# EAGLE library part P-12- (library con-headers-jp)
HEADER PLUG PINS
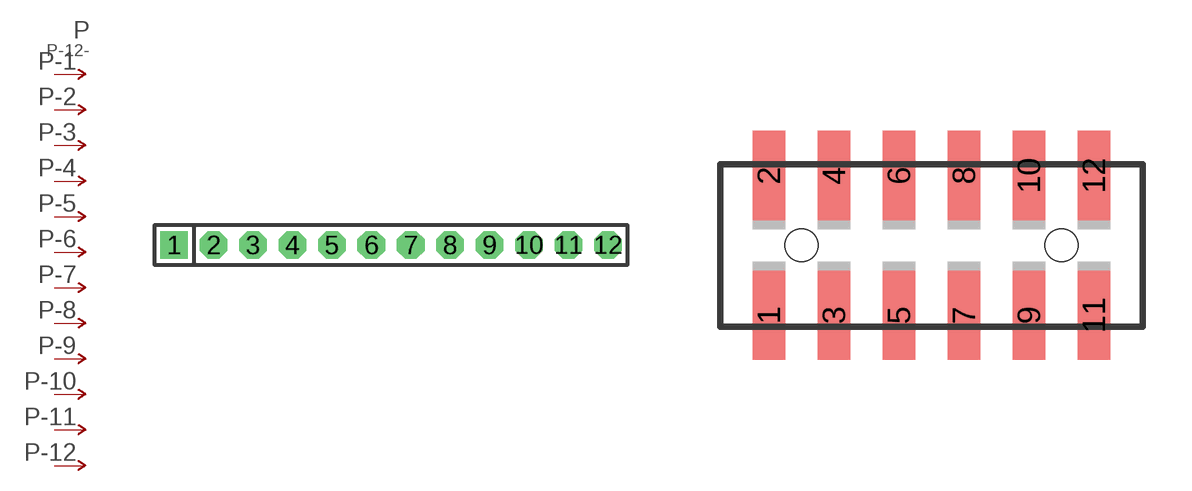
[diagram p13: symbol with the pads of SIP-100-12-40; footprints SIP-100-12-40, 87759-12]

Designator prefix P; gates -2=P-N -3=P-N -4=P-N -5=P-N -6=P-N -7=P-N -8=P-N -9=P-N -10=P-N -11=P-N -12=P-N -1=P-NV

## P-12-SIP-100-40  [SIP-100-12-40]
1  -1:P  pas
2  -2:P  pas
3  -3:P  pas
4  -4:P  pas
5  -5:P  pas
6  -6:P  pas
7  -7:P  pas
8  -8:P  pas
9  -9:P  pas
10  -10:P  pas
11  -11:P  pas
12  -12:P  pas

## P-12-87759  [87759-12]
Pads as for SIP-100-12-40

## P-12-100-2X06  [DIL-100-2X06]
Pads as for SIP-100-12-40

## P-12-100-2X06_M  [DIL-100-2X06_M]
Pads as for SIP-100-12-40

## P-12-2MM-2X06  [DIL-2MM-2X06]
Pads as for SIP-100-12-40

## P-12-2MM-2X06_M  [DIL-2MM-2X06_M]
Pads as for SIP-100-12-40

## P-12-SIP-100-32  [SIP-100-12-32]
Pads as for SIP-100-12-40

## P-12-SIP-100-40Y  [SIP-100-12-40Y]
Pads as for SIP-100-12-40

## P-12-SIP-100-32Y  [SIP-100-12-32Y]
Pads as for SIP-100-12-40

## P-12-87759_M  [87759-12_M]
Pads as for SIP-100-12-40

## P-12-LCW-112-XX-X-S  [LCW-112-XX-X-S]
Pads as for SIP-100-12-40

## P-12-LCW-112-XX-X-S-RE  [LCW-112-XX-X-S-RE]
Pads as for SIP-100-12-40

## Footprint SIP-100-12-40 (pad centres in mm)
SIP Header - 0.1", 40 mil drill
drill 1.016 pad 1.778 square: 1 -13.97,0
drill 1.016 pad 1.778 octagon: 2 -11.43,0; 3 -8.89,0; 4 -6.35,0; 5 -3.81,0; 6 -1.27,0; 7 1.27,0; 8 3.81,0; 9 6.35,0; 10 8.89,0; 11 11.43,0; 12 13.97,0

## Footprint 87759-12 (pad centres in mm)
Molex PCB Pin Headers 2.00mm (.079") Pitch Milli-Grid Header, Vertical SMD
smd 1 x 2.75: 1 -5,-2.15; 2 -5,2.15; 3 -3,-2.15; 4 -3,2.15; 5 -1,-2.15; 6 -1,2.15; 7 1,-2.15; 8 1,2.15; 9 3,-2.15; 10 3,2.15; 11 5,-2.15; 12 5,2.15
hole 1 at -4,0
hole 1 at 4,0

## Footprint DIL-100-2X06 (pad centres in mm)
PIN HEADER - 0.1"
drill 1.016 square: 1 -6.35,-1.27
drill 1.016 octagon: 2 -6.35,1.27; 3 -3.81,-1.27; 4 -3.81,1.27; 5 -1.27,-1.27; 6 -1.27,1.27; 7 1.27,-1.27; 8 1.27,1.27; 9 3.81,-1.27; 10 3.81,1.27; 11 6.35,-1.27; 12 6.35,1.27

## Footprint DIL-100-2X06_M (pad centres in mm)
PIN HEADER - MIRRORED 0.1"
drill 1.016 square: 1 -6.35,1.27
drill 1.016 octagon: 2 -6.35,-1.27; 3 -3.81,1.27; 4 -3.81,-1.27; 5 -1.27,1.27; 6 -1.27,-1.27; 7 1.27,1.27; 8 1.27,-1.27; 9 3.81,1.27; 10 3.81,-1.27; 11 6.35,1.27; 12 6.35,-1.27

## Footprint DIL-2MM-2X06 (pad centres in mm)
PIN HEADER - 2MM"
drill 0.711 pad 1.321 square: 1 -5,-1
drill 0.711 pad 1.321: 2 -5,1; 3 -3,-1; 4 -3,1; 5 -1,-1; 6 -1,1; 7 1,-1; 8 1,1; 9 3,-1; 10 3,1; 11 5,-1; 12 5,1

## Footprint DIL-2MM-2X06_M (pad centres in mm)
PIN HEADER - MIRRORED 2MM
drill 0.711 pad 1.321 square: 1 -5,1
drill 0.711 pad 1.321: 2 -5,-1; 3 -3,1; 4 -3,-1; 5 -1,1; 6 -1,-1; 7 1,1; 8 1,-1; 9 3,1; 10 3,-1; 11 5,1; 12 5,-1

## Footprint SIP-100-12-32 (pad centres in mm)
SIP Header - 0.1", 32 mil drill
drill 0.813 pad 1.778 square: 1 -13.97,0
drill 0.813 pad 1.778 octagon: 2 -11.43,0; 3 -8.89,0; 4 -6.35,0; 5 -3.81,0; 6 -1.27,0; 7 1.27,0; 8 3.81,0; 9 6.35,0; 10 8.89,0; 11 11.43,0; 12 13.97,0

## Footprint SIP-100-12-40Y (pad centres in mm)
SIP Header - 0.1", 40 mil drill
drill 1.016 long: 1 -13.97,0; 2 -11.43,0; 3 -8.89,0; 4 -6.35,0; 5 -3.81,0; 6 -1.27,0; 7 1.27,0; 8 3.81,0; 9 6.35,0; 10 8.89,0; 11 11.43,0; 12 13.97,0

## Footprint SIP-100-12-32Y (pad centres in mm)
SIP Header - 0.1", 32 mil drill
drill 0.813 long: 1 -13.97,0; 2 -11.43,0; 3 -8.89,0; 4 -6.35,0; 5 -3.81,0; 6 -1.27,0; 7 1.27,0; 8 3.81,0; 9 6.35,0; 10 8.89,0; 11 11.43,0; 12 13.97,0

## Footprint 87759-12_M (pad centres in mm)
Molex PCB Pin Headers - MIRRORED PADS 2.00mm (.079") Pitch Milli-Grid Header, Vertical SMD
smd 1 x 2.75: 1 -5,2.15; 2 -5,-2.15; 3 -3,2.15; 4 -3,-2.15; 5 -1,2.15; 6 -1,-2.15; 7 1,2.15; 8 1,-2.15; 9 3,2.15; 10 3,-2.15; 11 5,2.15; 12 5,-2.15
hole 1 at -4,0
hole 1 at 4,0

## Footprint LCW-112-XX-X-S (pad centres in mm)
Samtec LCW Series friction lock strips, 0.025" square pins
drill 0.813 long: 1 13.97,0; 2 11.43,0; 3 8.89,0; 4 6.35,0; 5 3.81,0; 6 1.27,0; 7 -1.27,0; 8 -3.81,0; 9 -6.35,0; 10 -8.89,0; 11 -11.43,0; 12 -13.97,0

## Footprint LCW-112-XX-X-S-RE (pad centres in mm)
Samtec LCW Series right angle, friction lock strips, 0.025" square pins
drill 0.813 long: 1 13.97,0; 2 11.43,0; 3 8.89,0; 4 6.35,0; 5 3.81,0; 6 1.27,0; 7 -1.27,0; 8 -3.81,0; 9 -6.35,0; 10 -8.89,0; 11 -11.43,0; 12 -13.97,0